# Altium integrated library Infineon_Power_IGBT.IntLib: 226 symbols (part 8 of 8)
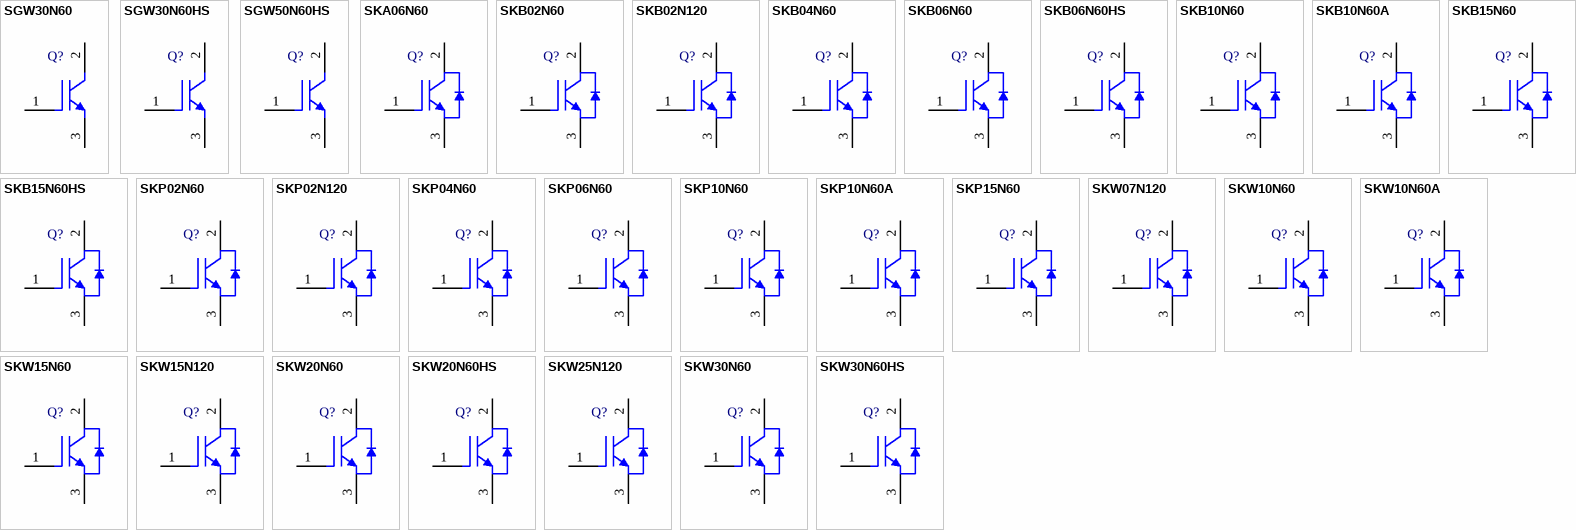
[diagram p12: symbols SGW30N60 to SKW30N60HS]

## SKW30N60
designator Q?
Fast IGBT in NPT-Technology with Soft, Fast Recovery Anti-Parallel EmCon Diode, PG-TO-247-3, Tube, Green; Manufacturer: Infineon; PartNumber: SKW30N60; Green: TRUE; IC(max) @ 100 degC: 30 A; IC(max) @ 25 degC: 41 A; Switching Frequency: Fast IGBT 10-40 kHz; VCE (max): 600 V; VCE(sat) (typ): 2.5 V; DatasheetVersion: Rev. 2.2; PackageVersion: Rev. 03, 12/2007; PackageReference: PG-TO247-3; PackageDescription: 3-Pin Plastic (Green) Transistor Single Outline Package, 15.865 x 5.03 mm Body, 5.44 mm Pitch; Supplier 1: Mouser; Supplier Part Number 1: 726-SKW30N60; Supplier 2: Digi-Key; Supplier Part Number 2: SKW30N60-ND; Halogen-free: FALSE; Packing: Tube; Mounting Technology: Through Hole; ComponentLink1Description: Manufacturer URL; ComponentLink1URL: http://www.infineon.com/; ComponentLink2Description: Datasheet; ComponentLink2URL: http://www.infineon.com/dgdl/SKW30N60_Rev2_2G.pdf?folderId=db3a304412b407950112b408e8c90004&fileId=db3a304412b407950112b427ee0f3d1e; ComponentLink3Description: Package Specification; ComponentLink3URL: http://www.infineon.com/dgdl/SKW30N60HS_Rev2_2G.pdf?folderId=db3a304412b407950112b408e8c90004&fileId=db3a304412b407950112b42862d43de6
footprint INF-PG-TO-247-3 (FM, 3-Leads, Body 15.865x5.03mm, Pitch 5.44mm)
pins: 1 G, 2 C, 3 E

## SKW30N60HS
designator Q?
High Speed IGBT in NPT-Technology, PG-TO-247-3, Tube, Green; Manufacturer: Infineon; PartNumber: SKW30N60HS; Green: TRUE; IC(max) @ 100 degC: 30 A; IC(max) @ 25 degC: 41 A; Switching Frequency: HighSpeed 30-100 kHz; VCE (max): 600 V; VCE(sat) (typ): 2.8 V; DatasheetVersion: Rev. 2.2; PackageVersion: Rev. 03, 12/2007; PackageReference: PG-TO247-3; PackageDescription: 3-Pin Plastic (Green) Transistor Single Outline Package, 15.865 x 5.03 mm Body, 5.44 mm Pitch; Supplier 1: Mouser; Supplier Part Number 1: 726-SKW30N60HS; Supplier 2: Digi-Key; Supplier Part Number 2: SKW30N60HS-ND; Halogen-free: FALSE; Packing: Tube; Mounting Technology: Through Hole; ComponentLink1Description: Manufacturer URL; ComponentLink1URL: http://www.infineon.com/; ComponentLink2Description: Datasheet; ComponentLink2URL: http://www.infineon.com/dgdl/SKW30N60HS_Rev2_2G.pdf?folderId=db3a304412b407950112b408e8c90004&fileId=db3a304412b407950112b42862d43de6; ComponentLink3Description: Package Specification; ComponentLink3URL: http://www.infineon.com/dgdl/SKW30N60HS_Rev2_2G.pdf?folderId=db3a304412b407950112b408e8c90004&fileId=db3a304412b407950112b42862d43de6
footprint INF-PG-TO-247-3 (FM, 3-Leads, Body 15.865x5.03mm, Pitch 5.44mm)
pins: 1 G, 2 C, 3 E